# Altium schematic symbol library ZETER_Sch_Lib.SchLib: 20 symbols
Pins are listed as number, name and electrical type; pins without a type are passive.

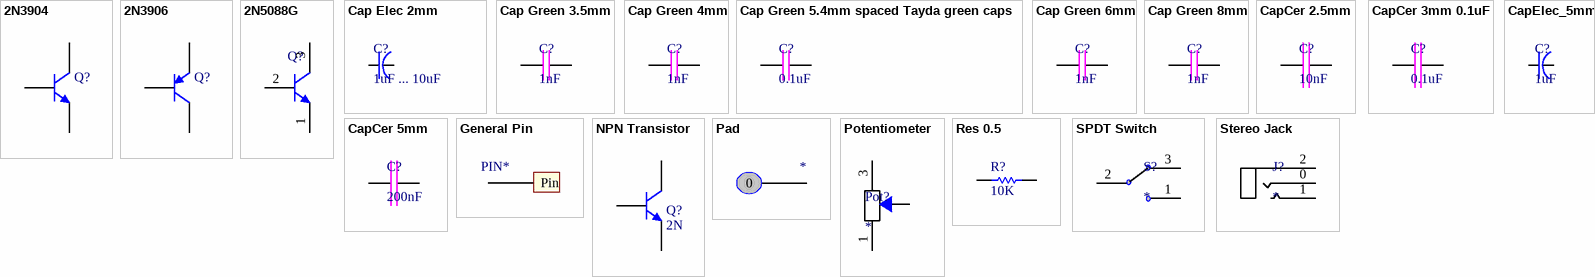
[diagram p0: symbols 2N3904 to Stereo Jack]

## 2N3904
designator Q?
NPN General Purpose Amplifier; Published: 8-Jun-2000; LatestRevisionDate: 15-Jan-2003; LatestRevisionNote: PCB Footprint 'BCY-W3/D4.7' replaced; DatasheetVersion: 1997; PackageVersion: Sep-1998; PackageReference: TO-92A; Publisher: Altium Limited; PackageDescription: TO, Flat Index; 3 In-Line, Axial Leads; Body Dia. 4.5mm; Leads 0.51 x 0.48 mm (max); ComponentLink1Description: Manufacturer Link; ComponentLink1URL: http://www.fairchildsemi.com/; ComponentLink2Description: Datasheet; ComponentLink2URL: http://www.fairchildsemi.com/ds/2N%2F2N3904.pdf
footprint TO-92A (TO, Flat Index; 3 In-Line, Axial Leads; Body Dia. 4.5mm; Leads 0.51 x 0.48 mm (max))
simulation model 2N3904 (NPN)
signal-integrity model 2N3904
pins: 1 E, 2 B, 3 C

## 2N3906
designator Q?
PNP General Purpose Amplifier; Published: 8-Jun-2000; LatestRevisionDate: 15-Jan-2003; LatestRevisionNote: PCB Footprint 'BCY-W3/D4.7' replaced; DatasheetVersion: 1997; PackageVersion: Sep-1998; PackageReference: TO-92A; Publisher: Altium Limited; PackageDescription: TO, Flat Index; 3 In-Line, Axial Leads; Body Dia. 4.5mm; Leads 0.51 x 0.48 mm (max); ComponentLink1Description: Manufacturer Link; ComponentLink1URL: http://www.fairchildsemi.com/; ComponentLink2Description: Datasheet; ComponentLink2URL: http://www.fairchildsemi.com/ds/2N%2F2N3906.pdf
footprint TO-92A (TO, Flat Index; 3 In-Line, Axial Leads; Body Dia. 4.5mm; Leads 0.51 x 0.48 mm (max))
simulation model 2N3906 (PNP)
signal-integrity model 2N3906
pins: 1 E, 2 B, 3 C

## 2N5088G
designator Q?
Amplifier Transistor, NPN Silicon, 3-Pin TO-92, Pb-Free, Bulk Box; Manufacturer: On Semiconductor; PartNumber: 2N5088G; fT Min (MHz): 50; IC Continuous (A): 0.05; DatasheetVersion: Rev. 4; PackageVersion: Rev. AM; PackageReference: TO-92-3-29-11_AM_SL; PackageDescription: 3-Pin Transistor Outline, Body 4.825 x 3.685 mm, Pitch 1.27 mm; Supplier 1: Newark; Supplier Part Number 1: 42K3133; Supplier 2: Mouser; Supplier Part Number 2: 863-2N5088G; Packing: Bulk Box; Polarity: NPN; RoHS: TRUE; Mounting Technology: Through Hole; ComponentLink1Description: Manufacturer URL; ComponentLink1URL: http://www.onsemi.com/; ComponentLink2Description: Datasheet; ComponentLink2URL: http://www.onsemi.com/pub_link/Collateral/2N5088-D.PDF; ComponentLink3Description: Package Specification; ComponentLink3URL: http://www.onsemi.cn/pub_link/Collateral/2N6426-D.PDF
footprint ONSC-TO-92-3-29-11 (TO, 3-Leads, Body Dia 4.7mm, Pitch 1.27mm)
pins: 1 E, 2 B, 3 C

## Cap Elec 2mm
designator C?, comment 1uF ... 10uF
2mm Lead Spaced Electro Cap
footprint Capacitor Electrolytic 2mm
pins: 1, 2

## Cap Green 3.5mm
designator C?, comment 1nF
3.5mm spaced leads for green caps
footprint Cap Green 3.5mm (3.5mm spacing)
pins: 1, 2

## Cap Green 4mm
designator C?, comment 1nF
4mm spaced leads for green caps
footprint Cap Green 4mm (4mm spacing)
pins: 1, 2

## Cap Green 5.4mm spaced Tayda green caps
designator C?, comment 0.1uF
5.4mm spaced Tayda green caps
footprint Cap Green 5.4mm (5.4mm spacing for Tayda)
pins: 1, 2

## Cap Green 6mm
designator C?, comment 1nF
6mm spaced leads for green caps
footprint Cap Green 6mm (6mm spacing)
pins: 1, 2

## Cap Green 8mm
designator C?, comment 1nF
8mm spaced leads for green caps
footprint Cap Green 8mm (8mm spacing)
pins: 1, 2

## CapCer 2.5mm
designator C?, comment 10nF
Ceramic Capactiro 2.5mm spaced leads
footprint CapCer 2.5
pins: 1, 2

## CapCer 3mm 0.1uF
designator C?, comment 0.1uF
Ceramic Capacitor 3mm spaced leads
footprint CapCer 3mm
pins: 1, 2

## CapCer 5mm
designator C?, comment 200nF
5mm Spaced Ceramic Capacitor Leads
footprint CapCer 5
pins: 1, 2

## CapElec_5mm
designator C?, comment 1uF
5mm Lead Spaced Electro Cap
footprint Capacitor Electrolytic 5mm
pins: 1, 2

## General Pin
designator PIN*, comment General Purpose I/I Pin  (value not drawn)
General Purpose I/O pin
footprint Pin (General Purpose I/O pin)
pins: 0 Pin

## NPN Transistor
designator Q?, comment 2N
NPN  Larger Leg Spacing
footprint NPN Transistor Wide (Wide Leg Spacing)
pins: 1 C, 2 B, 3 E

## Pad
designator *, comment General purpose pad  (value not drawn)
footprint Pin (General Purpose I/O pin)
pins: 0

## Potentiometer
designator Pot?
My Own
footprint Potentiometer (Normal Pinout)
pins: 1, 2 "Wiper", 3

## Res 0.5
designator R?, comment 10K
Radial 1/4 Watt Tayda; Value: 1K; Published: 8-Jun-2000; LatestRevisionDate: 17-Jul-2002; LatestRevisionNote: Re-released for DXP Platform.; PackageReference: AXIAL-0.3; Publisher: Altium Limited; PackageDescription: Axial Device, Thru-Hole; 2 Leads; 0.3 in Pin Spacing
footprint RES Axial 0.5 Tayda
pins: 1, 2

## SPDT Switch
designator S?
SPDT Switch
footprint SPDT Switch
pins: 1, 2, 3

## Stereo Jack
designator J?
Stereo Jack
footprint Stereo Jack
pins: 0 Ring, 1 Tip, 2 Sleeve